# Altium footprint library PcbLib1.PcbLib: 38 footprints (part 3 of 3)
Each footprint in its own frame and in the unit in brackets; x right, y up, seen from the top. Pads: shape width x height; smd on the part's side, far side on the other; paste and mask are expansions set on the pad; w line width, h text height; cw(c..) or ccw(c..) is an arc to the next point about the centre after c.
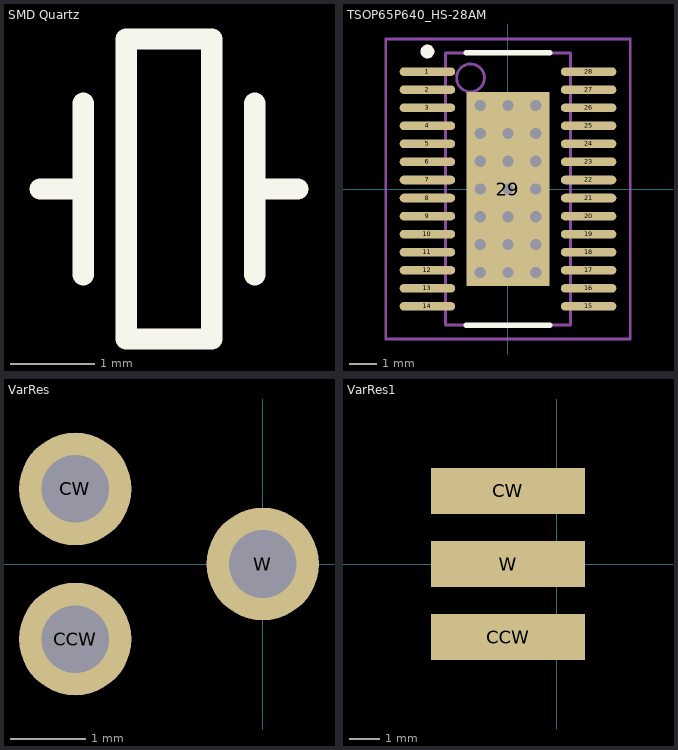
[diagram p2: the footprints below, top view; thin cyan lines are the x and y axes]

## SMD Quartz [mil]
Top Overlay:
  lines w10: -310,325 -290,325 ; -290,285 -290,365 ; -210,285 -210,365 ; -210,325 -190,325 ; -270,255 -230,255 -230,395 -270,395 -270,255
3D body: height 98.43, standoff 0, extent 0,-236.22 118.11,0

## TSOP65P640_HS-28AM [mm] "TSOP, 28-Leads, Body 9.7x4.4mm, Pitch 0.65mm, Exposed Pad, IPC Low Density"
height 1.1
pads (29):
  oval 2x0.31 smd: 1(-2.9,4.225) 2(-2.9,3.575) 3(-2.9,2.925) 4(-2.9,2.275) 5(-2.9,1.625) 6(-2.9,0.975) 7(-2.9,0.325) 8(-2.9,-0.325) 9(-2.9,-0.975) 10(-2.9,-1.625) 11(-2.9,-2.275) 12(-2.9,-2.925) 13(-2.9,-3.575) 14(-2.9,-4.225) 15(2.9,-4.225) 16(2.9,-3.575) 17(2.9,-2.925) 18(2.9,-2.275) 19(2.9,-1.625) 20(2.9,-0.975) 21(2.9,-0.325) 22(2.9,0.325) 23(2.9,0.975) 24(2.9,1.625) 25(2.9,2.275) 26(2.9,2.925) 27(2.9,3.575) 28(2.9,4.225)
  rect 3x7 all layers, no hole: 29(0,0)
via 0,3 diameter 0.8 hole 0.4
via 1,0 diameter 0.8 hole 0.4
via -1,0 diameter 0.8 hole 0.4
via -1,1 diameter 0.8 hole 0.4
via 0,1 diameter 0.8 hole 0.4
via 1,1 diameter 0.8 hole 0.4
via 1,2 diameter 0.8 hole 0.4
via 0,2 diameter 0.8 hole 0.4
via -1,2 diameter 0.8 hole 0.4
via 1,3 diameter 0.8 hole 0.4
via -1,3 diameter 0.8 hole 0.4
via -1,-1 diameter 0.8 hole 0.4
via 0,-1 diameter 0.8 hole 0.4
via 1,-1 diameter 0.8 hole 0.4
via 1,-2 diameter 0.8 hole 0.4
via 0,-2 diameter 0.8 hole 0.4
via -1,-2 diameter 0.8 hole 0.4
via -1,-3 diameter 0.8 hole 0.4
via 0,-3 diameter 0.8 hole 0.4
via 1,-3 diameter 0.8 hole 0.4
via 0,0 diameter 0.8 hole 0.4
Top Overlay:
  circle w0.25: c-2.9,4.95 r0.125
  lines w0.2: -1.5,-4.9 1.5,-4.9 ; -1.5,4.9 1.5,4.9
Mechanical 13:
  circle w0.1: c-1.35,4 r0.5
  lines w0.1: -2.25,-4.9 2.25,-4.9 2.25,4.9 -2.25,4.9 -2.25,-4.9
Mechanical 15:
  lines w0.1: -4.4,-5.4 4.4,-5.4 4.4,5.4 -4.4,5.4 -4.4,-5.4 ; -0.5,0 0.5,0 -0.5,0 ; 0,-0.5 0,0.5 0,-0.5
3D body: height 1.1, standoff 0, extent -2.25,-4.9 2.25,4.9

## VarRes [mm] "Подстроечный резистор"
pads (3):
  round 1.5 hole 0.9: CCW(-2.5,-1) CW(-2.5,1) W(0,0)
3D body: height 4, standoff 0, extent -3.187,-3.187 3.187,3.2

## VarRes1 [mm] "Подстроечный резистор вертикально"
pads (3):
  rect 5x1.5 smd: CCW(-1.587,-2.381) CW(-1.587,2.381) W(-1.587,0)
3D body: height 6.37, standoff 0, extent 1.5,-3.194 5.5,3.194

## ZP-36A [mil] "Power supply 5V 5A"
3D body: height 1456.69, standoff 0, extent 0,0 4330.71,3149.61

## ZP-36A up [mil] "Power supply 5V 5A"
3D body: height 4330.71, standoff 0, extent 0,0 1456.69,3031.5